# Altium integrated library Analog Devices Data Converters Analog-to-Digital Converters.IntLib: 2400 symbols (part 56 of 338)
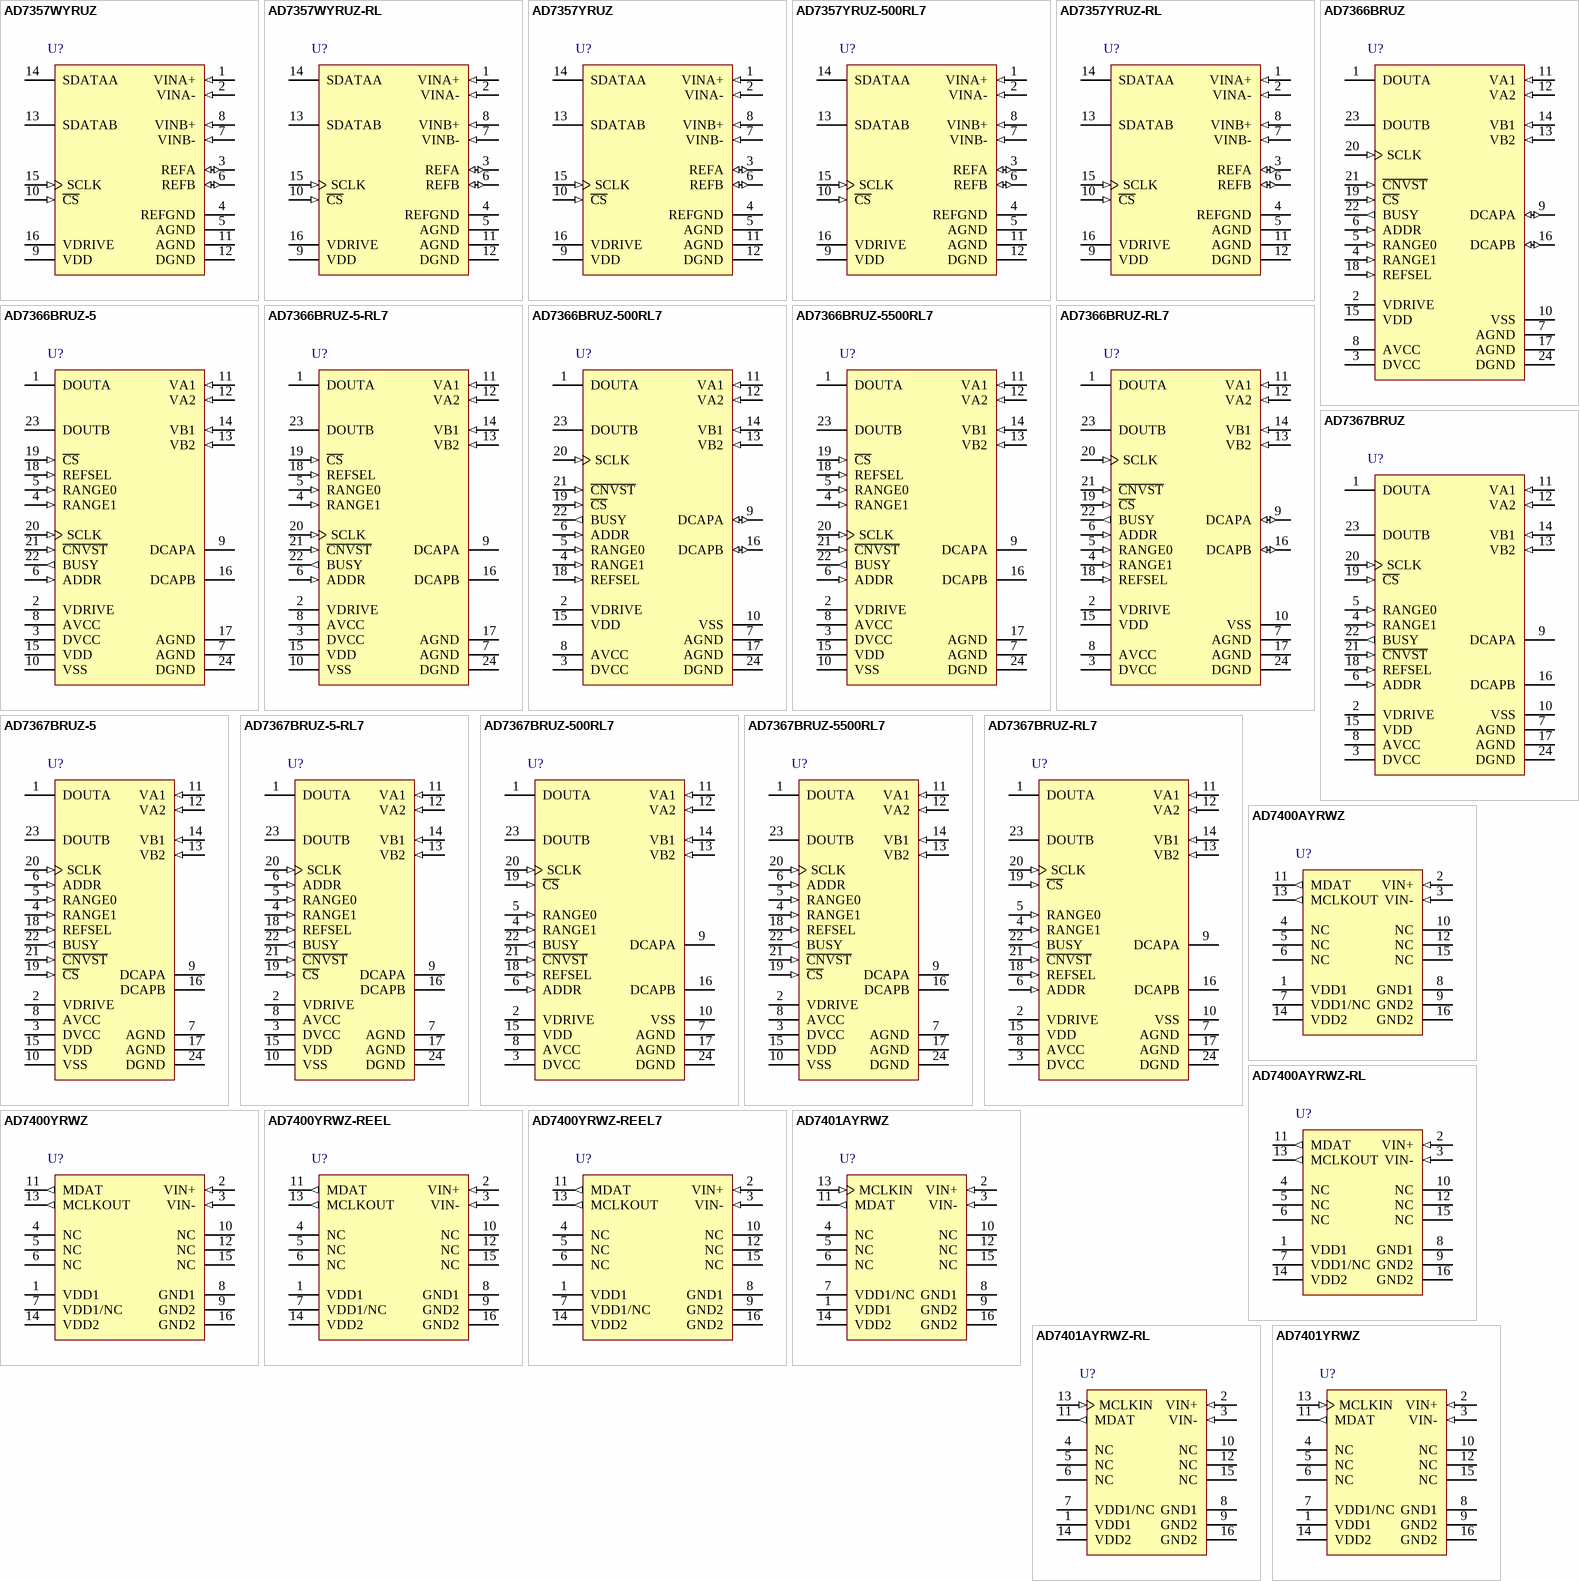
[diagram p187: symbols AD7357WYRUZ to AD7401YRWZ]

## AD7367BRUZ-5500RL7
designator U?
Dual 14-Bit True Bipolar Input SAR Analog-to-Digital Converter with Serial, SPI Interface, Simultaneous Sampling, 500KSPS, -40 to +85 degC, RU-24, Pb-Free, Reel; Part Number: AD7367-5; Manufacturer: Analog Devices; Resolution (Bits): 14; Channels: 2; Throughput Rate (SPS): 500K; Interface: Ser, SPI; DatasheetVersion: Rev.A; PackageVersion: 2002; PackageReference: RU-24; PackageDescription: 24-Lead Thin Shrink Small Outline Package [TSSOP]; RoHS: Y; Packing: Reel; Mounting Technology: Surface Mount; Code_JEDEC: MO-153-AD; ComponentLink1Description: Manufacturer URL; ComponentLink1URL: http://www.analog.com/en/index.html; ComponentLink2Description: Datasheet; ComponentLink2URL: http://www.analog.com/static/imported-files/data_sheets/AD7366_5_AD7367_5.pdf; ComponentLink3Description: Package Specification; ComponentLink3URL: http://www.analog.com/static/imported-files/packages/380523655245964505593671154107510036154RU24.pdf; ComponentLink4Description: Product URL; ComponentLink4URL: http://www.analog.com/en/analog-to-digital-converters/ad-converters/ad7367-5/products/product.html
footprint RU-24_N (TSOP, 24-Leads, Body 7.8x4.4mm, Pitch 0.65mm, IPC Medium Density)
footprint RU-24_L (TSOP, 24-Leads, Body 7.8x4.4mm, Pitch 0.65mm, IPC High Density)
footprint RU-24_M (TSOP, 24-Leads, Body 7.8x4.4mm, Pitch 0.65mm, IPC Low Density)
pins: 1 DOUTA (hiz) "Serial Data Outputs. The data output is supplied to each pin as a serial data stream. The bits are clocked out on the falling edge of the SCLK input and 12 SCLK cycles are required to access the data from the AD7366-5 while  (See Datasheet)", 2 VDRIVE (power) "Logic Power Supply Input. The voltage supplied at this pin determines at what voltage the interface operates.This pin should be decoupled to DGND. The voltage range on this pin is 2.7 V to 5.25 V and may be different than (See Datasheet)", 3 DVCC (power) "Digital Supply Voltage, 4.75 V to 5.25 V. The DVCC and AVCC voltages should ideally be at the same potential.For best performance, it is recommended that the DVCC and AVCC pins be shorted together, to ensure that the voltage (See Datasheet)", 4 RANGE1 (in) "Analog Input Range Selection, Logic Inputs. The polarity on these pins determines the input range of the analog input channels. See the Analog Inputs section and Table 8 for details.", 5 RANGE0 (in) "Analog Input Range Selection, Logic Inputs. The polarity on these pins determines the input range of the analog input channels. See the Analog Inputs section and Table 8 for details.", 6 ADDR (in) "Multiplexer Select, Logic Input. This input is used to select the pair of channels to be simultaneously converted,either Channel 1 of both ADC A and ADC B, or Channel 2 of both ADC A and ADC B. The logic state on this pin is (See Datasheet)", 7 AGND (power) "Analog Ground. Ground reference point for all analog circuitry on the AD7366-5/AD7367-5. All analog input signals and any external reference signal should be referred to this AGND voltage. Both AGND pins should connect to (See Datasheet)", 8 AVCC (power) "Analog Supply Voltage, 4.75 V to 5.25 V. This is the supply voltage for the ADC cores. The AVCC and DVCC voltages should ideally be at the same potential. For best performance, it is recommended that the DVCC and AVCC pins (See Datasheet)", 9 DCAPA "Decoupling Capacitor Pins. Decoupling capacitors are connected to these pins to decouple the reference buffer for each respective ADC. For best performance, it is recommended to use a 680 nF decoupling capacitor on these (See Datasheet)", 10 VSS (power) "Negative Power Supply Voltage. This is the negative supply voltage for the high voltage analog input structure of the AD7366-5/AD7367-5. The supply must be less than or equal to -5 V (see Table 7 for further details). Place (See Datasheet)", 11 VA1 (in) "Analog Inputs of ADC A. These are both single-ended analog inputs. The analog input range on these channels is determined by the RANGE0 and RANGE1 pins.", 12 VA2 (in) "Analog Inputs of ADC A. These are both single-ended analog inputs. The analog input range on these channels is determined by the RANGE0 and RANGE1 pins.", 13 VB2 (in) "Analog Inputs of ADC B. These are both single-ended analog inputs. The analog input range on these channels is determined by the RANGE0 and RANGE1 pins.", 14 VB1 (in) "Analog Inputs of ADC B. These are both single-ended analog inputs. The analog input range on these channels is determined by the RANGE0 and RANGE1 pins.", 15 VDD (power) "Positive Power Supply Voltage. This is the positive supply voltage for the high voltage analog input structure of the AD7366-5/AD7367-5. The supply must be greater than or equal to 5 V (see Table 7 for further details). (See Datasheet)", 16 DCAPB "Decoupling Capacitor Pins. Decoupling capacitors are connected to these pins to decouple the reference buffer for each respective ADC. For best performance, it is recommended to use a 680 nF decoupling capacitor on these (See Datasheet)", 17 AGND (power) "Analog Ground. Ground reference point for all analog circuitry on the AD7366-5/AD7367-5. All analog input signals and any external reference signal should be referred to this AGND voltage. Both AGND pins should connect to (See Datasheet)", 18 REFSEL (in) "Internal/External Reference Selection, Logic Input. If this pin is tied to logic high, the on-chip 2.5 V reference is used as the reference source for both ADC A and ADC B. In addition, Pin DCAPA and Pin DCAPB must be tied (See Datasheet)", 19 ~{CS} (in) "Chip Select, Active Low Logic Input. This input frames the serial data transfer. When C\S\ is logic low, the output bus is enabled, and the conversion result is output on DOUTA and DOUTB.", 20 SCLK (in) "Serial Clock, Logic Input. A serial clock input provides the SCLK for accessing the data from the AD7366-5/AD7367-5.", 21 ~{CNVST} (in) "Conversion Start, Logic Input. This pin is edge triggered. On the falling edge of this input, the track/hold goes into hold mode and the conversion is initiated. If C\N\V\S\T\ is low at the end of a conversion, the part goes (See Datasheet)", 22 BUSY (out) "Busy Output. BUSY transitions high when a conversion starts and remains high until the conversion completes.", 23 DOUTB (hiz) "Serial Data Outputs. The data output is supplied to each pin as a serial data stream. The bits are clocked out on the falling edge of the SCLK input and 12 SCLK cycles are required to access the data from the AD7366-5 while  (See Datasheet)", 24 DGND (power) "Digital Ground. This is the ground reference point for all digital circuitry on the AD7366-5/AD7367-5. The DGND pin should connect to the DGND plane of a system. The DGND and AGND voltages should ideally be at the same (See Datasheet)"

## AD7367BRUZ-RL7
designator U?
Dual 14-Bit True Bipolar Input SAR Analog-to-Digital Converter with Serial, SPI Interface, Simultaneous Sampling, 1MSPS, -40 to +85 degC, RU-24, Pb-Free, Reel; Part Number: AD7367; Manufacturer: Analog Devices; Resolution (Bits): 14; Channels: 4; Throughput Rate (SPS): 1M; Interface: Ser, SPI; DatasheetVersion: Rev.D; PackageVersion: 2002; PackageReference: RU-24; PackageDescription: 24-Lead Thin Shrink Small Outline Package [TSSOP]; RoHS: Y; Packing: Reel; Mounting Technology: Surface Mount; Code_JEDEC: MO-153-AD; ComponentLink1Description: Manufacturer URL; ComponentLink1URL: http://www.analog.com/en/index.html; ComponentLink2Description: Datasheet; ComponentLink2URL: http://www.analog.com/static/imported-files/data_sheets/AD7366_7367.pdf; ComponentLink3Description: Package Specification; ComponentLink3URL: http://www.analog.com/static/imported-files/packages/380523655245964505593671154107510036154RU24.pdf; ComponentLink4Description: Product URL; ComponentLink4URL: http://www.analog.com/en/analog-to-digital-converters/ad-converters/ad7367/products/product.html
footprint RU-24_N (TSOP, 24-Leads, Body 7.8x4.4mm, Pitch 0.65mm, IPC Medium Density)
footprint RU-24_L (TSOP, 24-Leads, Body 7.8x4.4mm, Pitch 0.65mm, IPC High Density)
footprint RU-24_M (TSOP, 24-Leads, Body 7.8x4.4mm, Pitch 0.65mm, IPC Low Density)
pins: 1 DOUTA (hiz) "Serial Data Outputs. The data output is supplied to each pin as a serial data stream. The bits are clocked out on the falling edge of the SCLK input; 12 SCLK cycles are required to access a result from the AD7366, and 14 (See Datasheet)", 2 VDRIVE (power) "Logic Power Supply Input. The voltage supplied at this pin determines at what voltage the interface operates. This pin should be decoupled to DGND. The voltage range on this pin is 2.7 V to 5.25 V and may be different from (See Datasheet)", 3 DVCC (power) "Digital Supply Voltage, 4.75 V to 5.25 V. The DVCC and AVCC voltages should ideally be at the same potential. For best performance, it is recommended that the DVCC and AVCC pins be shorted together, to ensure that the (See Datasheet)", 4 RANGE1 (in) "Analog Input Range Selection, Logic Inputs. The polarity on these pins determines the input range of the analog input channels. See the Analog Inputs section and Table 8 for details.", 5 RANGE0 (in) "Analog Input Range Selection, Logic Inputs. The polarity on these pins determines the input range of the analog input channels. See the Analog Inputs section and Table 8 for details.", 6 ADDR (in) "Multiplexer Select, Logic Input. This input is used to select the pair of channels to be simultaneously converted,either Channel 1 of both ADC A and ADC B, or Channel 2 of both ADC A and ADC B. The logic state on this pin is (See Datasheet)", 7 AGND (power) "Analog Ground. Ground reference point for all analog circuitry on the AD7366/AD7367. All analog input signals and any external reference signal should be referred to this AGND voltage. Both AGND pins should connect to the (See Datasheet)", 8 AVCC (power) "Analog Supply Voltage, 4.75 V to 5.25 V. This is the supply voltage for the ADC cores. The AVCC and DVCC voltages should ideally be at the same potential. For best performance, it is recommended that the DVCC and AVCC pins (See Datasheet)", 9 DCAPA "Decoupling Capacitor Pins. Decoupling capacitors are connected to these pins to decouple the reference buffer for each respective ADC. For best performance, it is recommended that a 680 nF decoupling capacitor be used on (See Datasheet)", 10 VSS (power) "Negative Power Supply Voltage. This is the negative supply voltage for the high voltage analog input structure of the AD7366/AD7367. The supply must be less than a maximum voltage of -11.5 V for all analog input ranges.See (See Datasheet)", 11 VA1 (in) "Analog Inputs of ADC A. Both analog inputs are single-ended. The analog input range on these channels is determined by the RANGE0 and RANGE1 pins.", 12 VA2 (in) "Analog Inputs of ADC A. Both analog inputs are single-ended. The analog input range on these channels is determined by the RANGE0 and RANGE1 pins.", 13 VB2 (in) "Analog Inputs of ADC B. Both analog inputs are single-ended. The analog input range on these channels is determined by the RANGE0 and RANGE1 pins.", 14 VB1 (in) "Analog Inputs of ADC B. Both analog inputs are single-ended. The analog input range on these channels is determined by the RANGE0 and RANGE1 pins.", 15 VDD (power) "Positive Power Supply Voltage. This is the positive supply voltage for the high voltage analog input structure of the AD7366/AD7367. The supply must be greater than a minimum voltage of 11.5 V for all analog input ranges.See (See Datasheet)", 16 DCAPB "Decoupling Capacitor Pins. Decoupling capacitors are connected to these pins to decouple the reference buffer for each respective ADC. For best performance, it is recommended that a 680 nF decoupling capacitor be used on (See Datasheet)", 17 AGND (power) "Analog Ground. Ground reference point for all analog circuitry on the AD7366/AD7367. All analog input signals and any external reference signal should be referred to this AGND voltage. Both AGND pins should connect to the (See Datasheet)", 18 REFSEL (in) "Internal/External Reference Selection, Logic Input. If this pin is tied to logic high, the on-chip 2.5 V reference is used as the reference source for both ADC A and ADC B. In addition, Pin DCAPA and Pin DCAPB must be tied (See Datasheet)", 19 ~{CS} (in) "Chip Select, Active Low Logic Input. This input frames the serial data transfer. When C\S\ is logic low, the output bus is enabled and the conversion result is output on DOUTA and DOUTB.", 20 SCLK (in) "Serial Clock, Logic Input. A serial clock input provides the SCLK for accessing the data from the AD7366/AD7367.", 21 ~{CNVST} (in) "Conversion Start, Logic Input. This pin is edge triggered. On the falling edge of this input, the track/hold goes into hold mode and the conversion is initiated. If C\N\V\S\T\ is low at the end of a conversion, the part goes (See Datasheet)", 22 BUSY (out) "Busy Output. BUSY transitions high when a conversion is started and remains high until the conversion is complete.", 23 DOUTB (hiz) "Serial Data Outputs. The data output is supplied to each pin as a serial data stream. The bits are clocked out on the falling edge of the SCLK input; 12 SCLK cycles are required to access a result from the AD7366, and 14 (See Datasheet)", 24 DGND (power) "Digital Ground. Ground reference point for all digital circuitry on the AD7366/AD7367. The DGND pin should connect to the DGND plane of a system. The DGND and AGND voltages should ideally be at the same potential and must (See Datasheet)"

## AD7400AYRWZ
designator U?
Isolated Sigma-Delta Modulator, 10MSPS, -40 to +125 degC, RW-16, Pb-Free, Tube; Part Number: AD7400A; Manufacturer: Analog Devices; Resolution (Bits): 16; Channels: 1; Throughput Rate (SPS): 10M; Interface: Ser; DatasheetVersion: Rev.C; PackageVersion: 032707-B; PackageReference: RW-16; PackageDescription: 16-Lead Standard Small Outline Package [SOIC_W]; RoHS: Y; Packing: Tube; Mounting Technology: Surface Mount; Code_JEDEC: MS-013-AA; Code_IPC: SOIC127P1030-16; ComponentLink1Description: Manufacturer URL; ComponentLink1URL: http://www.analog.com/en/index.html; ComponentLink2Description: Datasheet; ComponentLink2URL: http://www.analog.com/static/imported-files/data_sheets/AD7400A.pdf; ComponentLink3Description: Package Specification; ComponentLink3URL: http://www.analog.com/static/imported-files/packages/PKG_PDF/SOIC_WIDE%20%28RW%29/RW_16.pdf; ComponentLink4Description: Product URL; ComponentLink4URL: http://www.analog.com/en/analog-to-digital-converters/ad-converters/ad7400a/products/product.html
footprint RW-16_N (SOIC, 16-Leads, Body 10.3x7.5mm, Pitch 1.27mm, IPC Medium Density)
footprint RW-16_L (SOIC, 16-Leads, Body 10.3x7.5mm, Pitch 1.27mm, IPC High Density)
footprint RW-16_M (SOIC, 16-Leads, Body 10.3x7.5mm, Pitch 1.27mm, IPC Low Density)
pins: 1 VDD1 (power) "Supply Voltage, 4.5 V to 5.5 V. This is the supply voltage for the isolated side of the AD7400A and is relative to GND1.", 2 VIN+ (in) "Positive Analog Input. Specified range of +/-250 mV.", 3 VIN- (in) "Negative Analog Input. Normally connected to GND1.", 4 NC "No Connect.", 5 NC "No Connect.", 6 NC "No Connect.", 7 VDD1/NC (power) "Supply Voltage. 4.5 V to 5.5 V. This is the supply voltage for the isolated side of the AD7400A and is relative to GND1.No Connect (NC). If desired, Pin 7 of the SOIC device may be allowed to float. It should not be tied to (See Datasheet)", 8 GND1 (power) "Ground 1. This is the ground reference point for all circuitry on the isolated side.", 9 GND2 (power) "Ground 2. This is the ground reference point for all circuitry on the nonisolated side.", 10 NC "No Connect.", 11 MDAT (out) "Serial Data Output. The single bit modulator output is supplied to this pin as a serial data stream. The bits are clocked out on the rising edge of the MCLKOUT output and are valid on the following MCLKOUT rising edge.", 12 NC "No Connect.", 13 MCLKOUT (out) "Master Clock Logic Output (10 MHz Typical). The bit stream from the modulator is valid on the rising edge of MCLKOUT.", 14 VDD2 (power) "Supply Voltage, 3 V to 5.5 V. This is the supply voltage for the nonisolated side and is relative to GND2.", 15 NC "No Connect.", 16 GND2 (power) "Ground 2. This is the ground reference point for all circuitry on the nonisolated side."

## AD7400AYRWZ-RL
designator U?
Isolated Sigma-Delta Modulator, 10MSPS, -40 to +125 degC, RW-16, Pb-Free, Reel; Part Number: AD7400A; Manufacturer: Analog Devices; Resolution (Bits): 16; Channels: 1; Throughput Rate (SPS): 10M; Interface: Ser; DatasheetVersion: Rev.C; PackageVersion: 032707-B; PackageReference: RW-16; PackageDescription: 16-Lead Standard Small Outline Package [SOIC_W]; RoHS: Y; Packing: Reel; Mounting Technology: Surface Mount; Code_JEDEC: MS-013-AA; Code_IPC: SOIC127P1030-16; ComponentLink1Description: Manufacturer URL; ComponentLink1URL: http://www.analog.com/en/index.html; ComponentLink2Description: Datasheet; ComponentLink2URL: http://www.analog.com/static/imported-files/data_sheets/AD7400A.pdf; ComponentLink3Description: Package Specification; ComponentLink3URL: http://www.analog.com/static/imported-files/packages/PKG_PDF/SOIC_WIDE%20%28RW%29/RW_16.pdf; ComponentLink4Description: Product URL; ComponentLink4URL: http://www.analog.com/en/analog-to-digital-converters/ad-converters/ad7400a/products/product.html
footprint RW-16_N (SOIC, 16-Leads, Body 10.3x7.5mm, Pitch 1.27mm, IPC Medium Density)
footprint RW-16_L (SOIC, 16-Leads, Body 10.3x7.5mm, Pitch 1.27mm, IPC High Density)
footprint RW-16_M (SOIC, 16-Leads, Body 10.3x7.5mm, Pitch 1.27mm, IPC Low Density)
pins: 1 VDD1 (power) "Supply Voltage, 4.5 V to 5.5 V. This is the supply voltage for the isolated side of the AD7400A and is relative to GND1.", 2 VIN+ (in) "Positive Analog Input. Specified range of +/-250 mV.", 3 VIN- (in) "Negative Analog Input. Normally connected to GND1.", 4 NC "No Connect.", 5 NC "No Connect.", 6 NC "No Connect.", 7 VDD1/NC (power) "Supply Voltage. 4.5 V to 5.5 V. This is the supply voltage for the isolated side of the AD7400A and is relative to GND1.No Connect (NC). If desired, Pin 7 of the SOIC device may be allowed to float. It should not be tied to (See Datasheet)", 8 GND1 (power) "Ground 1. This is the ground reference point for all circuitry on the isolated side.", 9 GND2 (power) "Ground 2. This is the ground reference point for all circuitry on the nonisolated side.", 10 NC "No Connect.", 11 MDAT (out) "Serial Data Output. The single bit modulator output is supplied to this pin as a serial data stream. The bits are clocked out on the rising edge of the MCLKOUT output and are valid on the following MCLKOUT rising edge.", 12 NC "No Connect.", 13 MCLKOUT (out) "Master Clock Logic Output (10 MHz Typical). The bit stream from the modulator is valid on the rising edge of MCLKOUT.", 14 VDD2 (power) "Supply Voltage, 3 V to 5.5 V. This is the supply voltage for the nonisolated side and is relative to GND2.", 15 NC "No Connect.", 16 GND2 (power) "Ground 2. This is the ground reference point for all circuitry on the nonisolated side."

## AD7400YRWZ
designator U?
Isolated Sigma-Delta Modulator, 10MSPS, -40 to +105 degC, RW-16, Pb-Free, Tube; Part Number: AD7400; Manufacturer: Analog Devices; Resolution (Bits): 16; Channels: 1; Throughput Rate (SPS): 10M; Interface: Ser; DatasheetVersion: Rev.F; PackageVersion: 032707-B; PackageReference: RW-16; PackageDescription: 16-Lead Standard Small Outline Package [SOIC_W]; RoHS: Y; Packing: Tube; Mounting Technology: Surface Mount; Code_JEDEC: MS-013-AA; Code_IPC: SOIC127P1030-16; ComponentLink1Description: Manufacturer URL; ComponentLink1URL: http://www.analog.com/en/index.html; ComponentLink2Description: Datasheet; ComponentLink2URL: http://www.analog.com/static/imported-files/data_sheets/AD7400.pdf; ComponentLink3Description: Package Specification; ComponentLink3URL: http://www.analog.com/static/imported-files/packages/PKG_PDF/SOIC_WIDE%20%28RW%29/RW_16.pdf; ComponentLink4Description: Product URL; ComponentLink4URL: http://www.analog.com/en/analog-to-digital-converters/ad-converters/ad7400/products/product.html
footprint RW-16_N (SOIC, 16-Leads, Body 10.3x7.5mm, Pitch 1.27mm, IPC Medium Density)
footprint RW-16_L (SOIC, 16-Leads, Body 10.3x7.5mm, Pitch 1.27mm, IPC High Density)
footprint RW-16_M (SOIC, 16-Leads, Body 10.3x7.5mm, Pitch 1.27mm, IPC Low Density)
pins: 1 VDD1 (power) "Supply Voltage. 4.5 V to 5.25 V. This is the supply voltage for the isolated side of the AD7400 and is relative to GND1.", 2 VIN+ (in) "Positive Analog Input. Specified range of +/-200 mV.", 3 VIN- (in) "Negative Analog Input. Normally connected to GND1.", 4 NC "No Connect.", 5 NC "No Connect.", 6 NC "No Connect.", 7 VDD1/NC (power) "Supply Voltage. 4.5 V to 5.25 V. This is the supply voltage for the isolated side of the AD7400 and is relative to GND1.", 8 GND1 (power) "Ground 1. This is the ground reference point for all circuitry on the isolated side.", 9 GND2 (power) "Ground 2. This is the ground reference point for all circuitry on the nonisolated side.", 10 NC "No Connect.", 11 MDAT (out) "Serial Data Output. The single bit modulator output is supplied to this pin as a serial data stream.  The bits are clocked out on the rising edge of the MCLKOUT output and valid on the following  MCLKOUT rising edge.", 12 NC "No Connect.", 13 MCLKOUT (out) "Master Clock Logic Output. 10 MHz typical. The bit stream from the modulator is valid on the rising edge  of MCLKOUT.", 14 VDD2 (power) "Supply Voltage. 3 V to 5.5 V. This is the supply voltage for the nonisolated side and is relative to GND2.", 15 NC "No Connect.", 16 GND2 (power) "Ground 2. This is the ground reference point for all circuitry on the nonisolated side."

## AD7400YRWZ-REEL
designator U?
Isolated Sigma-Delta Modulator, 10MSPS, -40 to +105 degC, RW-16, Pb-Free, Reel; Part Number: AD7400; Manufacturer: Analog Devices; Resolution (Bits): 16; Channels: 1; Throughput Rate (SPS): 10M; Interface: Ser; DatasheetVersion: Rev.F; PackageVersion: 032707-B; PackageReference: RW-16; PackageDescription: 16-Lead Standard Small Outline Package [SOIC_W]; RoHS: Y; Packing: Reel; Mounting Technology: Surface Mount; Code_JEDEC: MS-013-AA; Code_IPC: SOIC127P1030-16; ComponentLink1Description: Manufacturer URL; ComponentLink1URL: http://www.analog.com/en/index.html; ComponentLink2Description: Datasheet; ComponentLink2URL: http://www.analog.com/static/imported-files/data_sheets/AD7400.pdf; ComponentLink3Description: Package Specification; ComponentLink3URL: http://www.analog.com/static/imported-files/packages/PKG_PDF/SOIC_WIDE%20%28RW%29/RW_16.pdf; ComponentLink4Description: Product URL; ComponentLink4URL: http://www.analog.com/en/analog-to-digital-converters/ad-converters/ad7400/products/product.html
footprint RW-16_N (SOIC, 16-Leads, Body 10.3x7.5mm, Pitch 1.27mm, IPC Medium Density)
footprint RW-16_L (SOIC, 16-Leads, Body 10.3x7.5mm, Pitch 1.27mm, IPC High Density)
footprint RW-16_M (SOIC, 16-Leads, Body 10.3x7.5mm, Pitch 1.27mm, IPC Low Density)
pins: 1 VDD1 (power) "Supply Voltage. 4.5 V to 5.25 V. This is the supply voltage for the isolated side of the AD7400 and is relative to GND1.", 2 VIN+ (in) "Positive Analog Input. Specified range of +/-200 mV.", 3 VIN- (in) "Negative Analog Input. Normally connected to GND1.", 4 NC "No Connect.", 5 NC "No Connect.", 6 NC "No Connect.", 7 VDD1/NC (power) "Supply Voltage. 4.5 V to 5.25 V. This is the supply voltage for the isolated side of the AD7400 and is relative to GND1.", 8 GND1 (power) "Ground 1. This is the ground reference point for all circuitry on the isolated side.", 9 GND2 (power) "Ground 2. This is the ground reference point for all circuitry on the nonisolated side.", 10 NC "No Connect.", 11 MDAT (out) "Serial Data Output. The single bit modulator output is supplied to this pin as a serial data stream.  The bits are clocked out on the rising edge of the MCLKOUT output and valid on the following  MCLKOUT rising edge.", 12 NC "No Connect.", 13 MCLKOUT (out) "Master Clock Logic Output. 10 MHz typical. The bit stream from the modulator is valid on the rising edge  of MCLKOUT.", 14 VDD2 (power) "Supply Voltage. 3 V to 5.5 V. This is the supply voltage for the nonisolated side and is relative to GND2.", 15 NC "No Connect.", 16 GND2 (power) "Ground 2. This is the ground reference point for all circuitry on the nonisolated side."

## AD7400YRWZ-REEL7
designator U?
Isolated Sigma-Delta Modulator, 10MSPS, -40 to +105 degC, RW-16, Pb-Free, Reel; Part Number: AD7400; Manufacturer: Analog Devices; Resolution (Bits): 16; Channels: 1; Throughput Rate (SPS): 10M; Interface: Ser; DatasheetVersion: Rev.F; PackageVersion: 032707-B; PackageReference: RW-16; PackageDescription: 16-Lead Standard Small Outline Package [SOIC_W]; RoHS: Y; Packing: Reel; Mounting Technology: Surface Mount; Code_JEDEC: MS-013-AA; Code_IPC: SOIC127P1030-16; ComponentLink1Description: Manufacturer URL; ComponentLink1URL: http://www.analog.com/en/index.html; ComponentLink2Description: Datasheet; ComponentLink2URL: http://www.analog.com/static/imported-files/data_sheets/AD7400.pdf; ComponentLink3Description: Package Specification; ComponentLink3URL: http://www.analog.com/static/imported-files/packages/PKG_PDF/SOIC_WIDE%20%28RW%29/RW_16.pdf; ComponentLink4Description: Product URL; ComponentLink4URL: http://www.analog.com/en/analog-to-digital-converters/ad-converters/ad7400/products/product.html
footprint RW-16_N (SOIC, 16-Leads, Body 10.3x7.5mm, Pitch 1.27mm, IPC Medium Density)
footprint RW-16_L (SOIC, 16-Leads, Body 10.3x7.5mm, Pitch 1.27mm, IPC High Density)
footprint RW-16_M (SOIC, 16-Leads, Body 10.3x7.5mm, Pitch 1.27mm, IPC Low Density)
pins: 1 VDD1 (power) "Supply Voltage. 4.5 V to 5.25 V. This is the supply voltage for the isolated side of the AD7400 and is relative to GND1.", 2 VIN+ (in) "Positive Analog Input. Specified range of +/-200 mV.", 3 VIN- (in) "Negative Analog Input. Normally connected to GND1.", 4 NC "No Connect.", 5 NC "No Connect.", 6 NC "No Connect.", 7 VDD1/NC (power) "Supply Voltage. 4.5 V to 5.25 V. This is the supply voltage for the isolated side of the AD7400 and is relative to GND1.", 8 GND1 (power) "Ground 1. This is the ground reference point for all circuitry on the isolated side.", 9 GND2 (power) "Ground 2. This is the ground reference point for all circuitry on the nonisolated side.", 10 NC "No Connect.", 11 MDAT (out) "Serial Data Output. The single bit modulator output is supplied to this pin as a serial data stream.  The bits are clocked out on the rising edge of the MCLKOUT output and valid on the following  MCLKOUT rising edge.", 12 NC "No Connect.", 13 MCLKOUT (out) "Master Clock Logic Output. 10 MHz typical. The bit stream from the modulator is valid on the rising edge  of MCLKOUT.", 14 VDD2 (power) "Supply Voltage. 3 V to 5.5 V. This is the supply voltage for the nonisolated side and is relative to GND2.", 15 NC "No Connect.", 16 GND2 (power) "Ground 2. This is the ground reference point for all circuitry on the nonisolated side."

## AD7401AYRWZ
designator U?
Isolated Sigma-Delta Modulator, 20MSPS, -40 to +125 degC, RW-16, Pb-Free, Tube; Part Number: AD7401A; Manufacturer: Analog Devices; Resolution (Bits): 16; Channels: 1; Throughput Rate (SPS): 20M; Interface: Ser; DatasheetVersion: Rev.C; PackageVersion: 032707-B; PackageReference: RW-16; PackageDescription: 16-Lead Standard Small Outline Package [SOIC_W]; RoHS: Y; Packing: Tube; Mounting Technology: Surface Mount; Code_JEDEC: MS-013-AA; Code_IPC: SOIC127P1030-16; ComponentLink1Description: Manufacturer URL; ComponentLink1URL: http://www.analog.com/en/index.html; ComponentLink2Description: Datasheet; ComponentLink2URL: http://www.analog.com/static/imported-files/data_sheets/AD7401A.pdf; ComponentLink3Description: Package Specification; ComponentLink3URL: http://www.analog.com/static/imported-files/packages/PKG_PDF/SOIC_WIDE%20%28RW%29/RW_16.pdf; ComponentLink4Description: Product URL; ComponentLink4URL: http://www.analog.com/en/analog-to-digital-converters/ad-converters/ad7401a/products/product.html
footprint RW-16_N (SOIC, 16-Leads, Body 10.3x7.5mm, Pitch 1.27mm, IPC Medium Density)
footprint RW-16_L (SOIC, 16-Leads, Body 10.3x7.5mm, Pitch 1.27mm, IPC High Density)
footprint RW-16_M (SOIC, 16-Leads, Body 10.3x7.5mm, Pitch 1.27mm, IPC Low Density)
pins: 1 VDD1 (power) "Supply Voltage, 4.5 V to 5.5 V. This is the supply voltage for the isolated side of the AD7401A and is relative to GND1.", 2 VIN+ (in) "Supply Voltage, 4.5 V to 5.5 V. This is the supply voltage for the isolated side of the AD7401A and is relative to GND1.", 3 VIN- (in) "Negative Analog Input. Normally connected to GND1.", 4 NC "No Connect.", 5 NC "No Connect.", 6 NC "No Connect.", 7 VDD1/NC (power) "Supply Voltage. 4.5 V to 5.5 V. This is the supply voltage for the isolated side of the AD7401A and is relative to GND1.No Connect (NC). If desired, Pin 7 may be allowed to float. It should not be tied to ground. The AD7401A (See Datasheet)", 8 GND1 "Ground 1. This is the ground reference point for all circuitry on the isolated side.", 9 GND2 "Ground 2. This is the ground reference point for all circuitry on the nonisolated side.", 10 NC "No Connect.", 11 MDAT (out) "Serial Data Output. The single bit modulator output is supplied to this pin as a serial data stream. The bits are clocked out on the rising edge of the MCLKIN input and valid on the following MCLKIN rising edge.", 12 NC "No Connect.", 13 MCLKIN (in) "Master Clock Logic Input. 20 MHz maximum. The bit stream from the modulator is valid on the rising edge of MCLKIN.", 14 VDD2 (power) "Supply Voltage. 3 V to 5.5 V. This is the supply voltage for the nonisolated side and is relative to GND2.", 15 NC "No Connect.", 16 GND2 "Ground 2. This is the ground reference point for all circuitry on the nonisolated side."

## AD7401AYRWZ-RL
designator U?
Isolated Sigma-Delta Modulator, 20MSPS, -40 to +125 degC, RW-16, Pb-Free, Reel; Part Number: AD7401A; Manufacturer: Analog Devices; Resolution (Bits): 16; Channels: 1; Throughput Rate (SPS): 20M; Interface: Ser; DatasheetVersion: Rev.C; PackageVersion: 032707-B; PackageReference: RW-16; PackageDescription: 16-Lead Standard Small Outline Package [SOIC_W]; RoHS: Y; Packing: Reel; Mounting Technology: Surface Mount; Code_JEDEC: MS-013-AA; Code_IPC: SOIC127P1030-16; ComponentLink1Description: Manufacturer URL; ComponentLink1URL: http://www.analog.com/en/index.html; ComponentLink2Description: Datasheet; ComponentLink2URL: http://www.analog.com/static/imported-files/data_sheets/AD7401A.pdf; ComponentLink3Description: Package Specification; ComponentLink3URL: http://www.analog.com/static/imported-files/packages/PKG_PDF/SOIC_WIDE%20%28RW%29/RW_16.pdf; ComponentLink4Description: Product URL; ComponentLink4URL: http://www.analog.com/en/analog-to-digital-converters/ad-converters/ad7401a/products/product.html
footprint RW-16_N (SOIC, 16-Leads, Body 10.3x7.5mm, Pitch 1.27mm, IPC Medium Density)
footprint RW-16_L (SOIC, 16-Leads, Body 10.3x7.5mm, Pitch 1.27mm, IPC High Density)
footprint RW-16_M (SOIC, 16-Leads, Body 10.3x7.5mm, Pitch 1.27mm, IPC Low Density)
pins: 1 VDD1 (power) "Supply Voltage, 4.5 V to 5.5 V. This is the supply voltage for the isolated side of the AD7401A and is relative to GND1.", 2 VIN+ (in) "Supply Voltage, 4.5 V to 5.5 V. This is the supply voltage for the isolated side of the AD7401A and is relative to GND1.", 3 VIN- (in) "Negative Analog Input. Normally connected to GND1.", 4 NC "No Connect.", 5 NC "No Connect.", 6 NC "No Connect.", 7 VDD1/NC (power) "Supply Voltage. 4.5 V to 5.5 V. This is the supply voltage for the isolated side of the AD7401A and is relative to GND1.No Connect (NC). If desired, Pin 7 may be allowed to float. It should not be tied to ground. The AD7401A (See Datasheet)", 8 GND1 "Ground 1. This is the ground reference point for all circuitry on the isolated side.", 9 GND2 "Ground 2. This is the ground reference point for all circuitry on the nonisolated side.", 10 NC "No Connect.", 11 MDAT (out) "Serial Data Output. The single bit modulator output is supplied to this pin as a serial data stream. The bits are clocked out on the rising edge of the MCLKIN input and valid on the following MCLKIN rising edge.", 12 NC "No Connect.", 13 MCLKIN (in) "Master Clock Logic Input. 20 MHz maximum. The bit stream from the modulator is valid on the rising edge of MCLKIN.", 14 VDD2 (power) "Supply Voltage. 3 V to 5.5 V. This is the supply voltage for the nonisolated side and is relative to GND2.", 15 NC "No Connect.", 16 GND2 "Ground 2. This is the ground reference point for all circuitry on the nonisolated side."

## AD7401YRWZ
designator U?
Isolated Sigma-Delta Modulator, 20MSPS, -40 to +105 degC, RW-16, Pb-Free, Tube; Part Number: AD7401; Manufacturer: Analog Devices; Resolution (Bits): 16; Channels: 1; Throughput Rate (SPS): 20M; Interface: Ser; DatasheetVersion: Rev.D; PackageVersion: 032707-B; PackageReference: RW-16; PackageDescription: 16-Lead Standard Small Outline Package [SOIC_W]; RoHS: Y; Packing: Tube; Mounting Technology: Surface Mount; Code_JEDEC: MS-013-AA; Code_IPC: SOIC127P1030-16; ComponentLink1Description: Manufacturer URL; ComponentLink1URL: http://www.analog.com/en/index.html; ComponentLink2Description: Datasheet; ComponentLink2URL: http://www.analog.com/static/imported-files/data_sheets/AD7401.pdf; ComponentLink3Description: Package Specification; ComponentLink3URL: http://www.analog.com/static/imported-files/packages/PKG_PDF/SOIC_WIDE%20%28RW%29/RW_16.pdf; ComponentLink4Description: Product URL; ComponentLink4URL: http://www.analog.com/en/analog-to-digital-converters/ad-converters/ad7401/products/product.html
footprint RW-16_N (SOIC, 16-Leads, Body 10.3x7.5mm, Pitch 1.27mm, IPC Medium Density)
footprint RW-16_L (SOIC, 16-Leads, Body 10.3x7.5mm, Pitch 1.27mm, IPC High Density)
footprint RW-16_M (SOIC, 16-Leads, Body 10.3x7.5mm, Pitch 1.27mm, IPC Low Density)
pins: 1 VDD1 (power) "Supply Voltage. 4.5 V to 5.25 V. This is the supply voltage for the isolated side of the AD7401 and is relative to GND1.", 2 VIN+ (in) "Positive Analog Input. Specified range of +/-200 mV.", 3 VIN- (in) "Negative Analog Input. Normally connected to GND1.", 4 NC "No Connect.", 5 NC "No Connect.", 6 NC "No Connect.", 7 VDD1/NC (power) "Supply Voltage. 4.5 V to 5.25 V. This is the supply voltage for the isolated side of the AD7401 and is relative to GND1. No Connect (NC). If desired, Pin 7 may be allowed to float. It should not be tied to ground. The AD7401 (See Datasheet)", 8 GND1 (power) "Ground 1. This is the ground reference point for all circuitry on the isolated side.", 9 GND2 (power) "Ground 2. This is the ground reference point for all circuitry on the nonisolated side.", 10 NC "No Connect.", 11 MDAT (out) "Serial Data Output. The single bit modulator output is supplied to this pin as a serial data stream. The bits are clocked out on the rising edge of the MCLKIN input and valid on the following MCLKIN rising edge.", 12 NC "No Connect.", 13 MCLKIN (in) "Master Clock Logic Input. 20 MHz maximum. The bit stream from the modulator is valid on the rising edge of MCLKIN.", 14 VDD2 (power) "Supply Voltage. 3 V to 5.5 V. This is the supply voltage for the nonisolated side and is relative to GND2.", 15 NC "No Connect.", 16 GND2 (power) "Ground 2. This is the ground reference point for all circuitry on the nonisolated side."

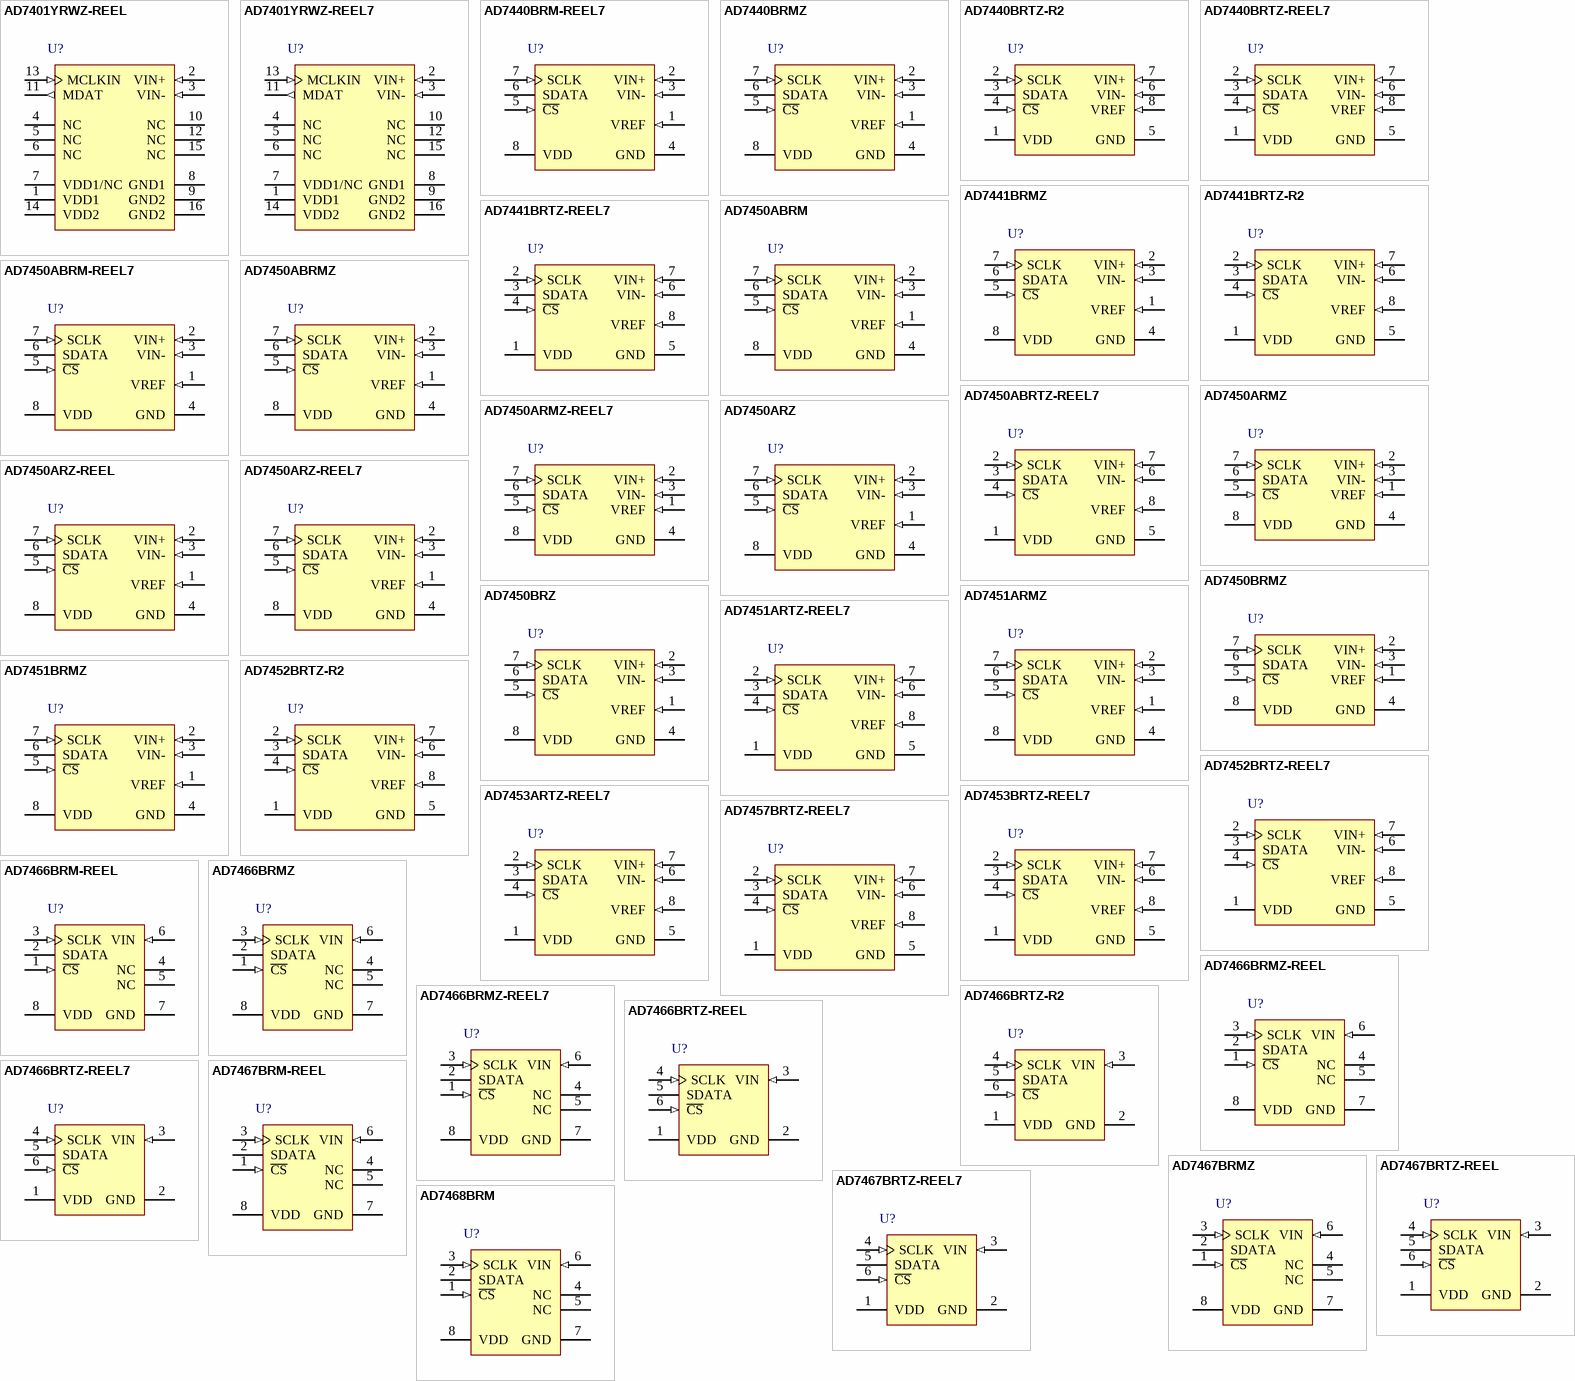
[diagram p22: symbols AD7401YRWZ-REEL to AD7468BRM]

## AD7401YRWZ-REEL
designator U?
Isolated Sigma-Delta Modulator, 20MSPS, -40 to +105 degC, RW-16, Pb-Free, Reel; Part Number: AD7401; Manufacturer: Analog Devices; Resolution (Bits): 16; Channels: 1; Throughput Rate (SPS): 20M; Interface: Ser; DatasheetVersion: Rev.D; PackageVersion: 032707-B; PackageReference: RW-16; PackageDescription: 16-Lead Standard Small Outline Package [SOIC_W]; RoHS: Y; Packing: Reel; Mounting Technology: Surface Mount; Code_JEDEC: MS-013-AA; Code_IPC: SOIC127P1030-16; ComponentLink1Description: Manufacturer URL; ComponentLink1URL: http://www.analog.com/en/index.html; ComponentLink2Description: Datasheet; ComponentLink2URL: http://www.analog.com/static/imported-files/data_sheets/AD7401.pdf; ComponentLink3Description: Package Specification; ComponentLink3URL: http://www.analog.com/static/imported-files/packages/PKG_PDF/SOIC_WIDE%20%28RW%29/RW_16.pdf; ComponentLink4Description: Product URL; ComponentLink4URL: http://www.analog.com/en/analog-to-digital-converters/ad-converters/ad7401/products/product.html
footprint RW-16_N (SOIC, 16-Leads, Body 10.3x7.5mm, Pitch 1.27mm, IPC Medium Density)
footprint RW-16_L (SOIC, 16-Leads, Body 10.3x7.5mm, Pitch 1.27mm, IPC High Density)
footprint RW-16_M (SOIC, 16-Leads, Body 10.3x7.5mm, Pitch 1.27mm, IPC Low Density)
pins: 1 VDD1 (power) "Supply Voltage. 4.5 V to 5.25 V. This is the supply voltage for the isolated side of the AD7401 and is relative to GND1.", 2 VIN+ (in) "Positive Analog Input. Specified range of +/-200 mV.", 3 VIN- (in) "Negative Analog Input. Normally connected to GND1.", 4 NC "No Connect.", 5 NC "No Connect.", 6 NC "No Connect.", 7 VDD1/NC (power) "Supply Voltage. 4.5 V to 5.25 V. This is the supply voltage for the isolated side of the AD7401 and is relative to GND1. No Connect (NC). If desired, Pin 7 may be allowed to float. It should not be tied to ground. The AD7401 (See Datasheet)", 8 GND1 (power) "Ground 1. This is the ground reference point for all circuitry on the isolated side.", 9 GND2 (power) "Ground 2. This is the ground reference point for all circuitry on the nonisolated side.", 10 NC "No Connect.", 11 MDAT (out) "Serial Data Output. The single bit modulator output is supplied to this pin as a serial data stream. The bits are clocked out on the rising edge of the MCLKIN input and valid on the following MCLKIN rising edge.", 12 NC "No Connect.", 13 MCLKIN (in) "Master Clock Logic Input. 20 MHz maximum. The bit stream from the modulator is valid on the rising edge of MCLKIN.", 14 VDD2 (power) "Supply Voltage. 3 V to 5.5 V. This is the supply voltage for the nonisolated side and is relative to GND2.", 15 NC "No Connect.", 16 GND2 (power) "Ground 2. This is the ground reference point for all circuitry on the nonisolated side."

## AD7401YRWZ-REEL7
designator U?
Isolated Sigma-Delta Modulator with Serial Interface, 20MSPS, -40 to +105 degC, RW-16, Pb-Free, Reel; Part Number: AD7401; Manufacturer: Analog Devices; Resolution (Bits): 16; Channels: 1; Throughput Rate (SPS): 20M; Interface: Ser; DatasheetVersion: Rev.D; PackageVersion: 032707-B; PackageReference: RW-16; PackageDescription: 16-Lead Standard Small Outline Package [SOIC_W]; RoHS: Y; Packing: Reel; Mounting Technology: Surface Mount; Code_JEDEC: MS-013-AA; Code_IPC: SOIC127P1030-16; ComponentLink1Description: Manufacturer URL; ComponentLink1URL: http://www.analog.com/en/index.html; ComponentLink2Description: Datasheet; ComponentLink2URL: http://www.analog.com/static/imported-files/data_sheets/AD7401.pdf; ComponentLink3Description: Package Specification; ComponentLink3URL: http://www.analog.com/static/imported-files/packages/PKG_PDF/SOIC_WIDE%20%28RW%29/RW_16.pdf; ComponentLink4Description: Product URL; ComponentLink4URL: http://www.analog.com/en/analog-to-digital-converters/ad-converters/ad7401/products/product.html
footprint RW-16_N (SOIC, 16-Leads, Body 10.3x7.5mm, Pitch 1.27mm, IPC Medium Density)
footprint RW-16_L (SOIC, 16-Leads, Body 10.3x7.5mm, Pitch 1.27mm, IPC High Density)
footprint RW-16_M (SOIC, 16-Leads, Body 10.3x7.5mm, Pitch 1.27mm, IPC Low Density)
pins: 1 VDD1 (power) "Supply Voltage. 4.5 V to 5.25 V. This is the supply voltage for the isolated side of the AD7401 and is relative to GND1.", 2 VIN+ (in) "Positive Analog Input. Specified range of +/-200 mV.", 3 VIN- (in) "Negative Analog Input. Normally connected to GND1.", 4 NC "No Connect.", 5 NC "No Connect.", 6 NC "No Connect.", 7 VDD1/NC (power) "Supply Voltage. 4.5 V to 5.25 V. This is the supply voltage for the isolated side of the AD7401 and is relative to GND1. No Connect (NC). If desired, Pin 7 may be allowed to float. It should not be tied to ground. The AD7401 (See Datasheet)", 8 GND1 (power) "Ground 1. This is the ground reference point for all circuitry on the isolated side.", 9 GND2 (power) "Ground 2. This is the ground reference point for all circuitry on the nonisolated side.", 10 NC "No Connect.", 11 MDAT (out) "Serial Data Output. The single bit modulator output is supplied to this pin as a serial data stream. The bits are clocked out on the rising edge of the MCLKIN input and valid on the following MCLKIN rising edge.", 12 NC "No Connect.", 13 MCLKIN (in) "Master Clock Logic Input. 20 MHz maximum. The bit stream from the modulator is valid on the rising edge of MCLKIN.", 14 VDD2 (power) "Supply Voltage. 3 V to 5.5 V. This is the supply voltage for the nonisolated side and is relative to GND2.", 15 NC "No Connect.", 16 GND2 (power) "Ground 2. This is the ground reference point for all circuitry on the nonisolated side."

## AD7440BRM-REEL7
designator U?
Single 10-Bit Analog-to-Digital Converter with Serial, SPI Interface, 1MSPS, -40 to +85 degC, RM-8, Reel; Part Number: AD7440; Manufacturer: Analog Devices; Resolution (Bits): 10; Channels: 1; Throughput Rate (SPS): 1M; Interface: Ser, SPI; DatasheetVersion: Rev.C; PackageVersion: Aug-2005; PackageReference: RM-8; PackageDescription: 8-Lead Mini Small Outline Package [MSOP]; RoHS: N; Packing: Reel; Mounting Technology: Surface Mount; Code_JEDEC: MO-187-AA; ComponentLink1Description: Manufacturer URL; ComponentLink1URL: http://www.analog.com/en/index.html; ComponentLink2Description: Datasheet; ComponentLink2URL: http://www.analog.com/static/imported-files/data_sheets/AD7440_7450A.pdf; ComponentLink3Description: Package Specification; ComponentLink3URL: http://www.analog.com/static/imported-files/packages/PKG_PDF/MSOP%28RM%29/RM_8.pdf; ComponentLink4Description: Product URL; ComponentLink4URL: http://www.analog.com/en/analog-to-digital-converters/ad-converters/ad7440/products/product.html
footprint RM-8_N (TSOP, 8-Leads, Body 3x3mm, Pitch 0.65mm, IPC Medium Density)
footprint RM-8_L (TSOP, 8-Leads, Body 3x3mm, Pitch 0.65mm, IPC High Density)
footprint RM-8_M (TSOP, 8-Leads, Body 3x3mm, Pitch 0.65mm, IPC Low Density)
pins: 1 VREF (in) "Reference Input for the AD7440. An external reference must be applied to this input. For a 5 V power supply, the reference is 2.5 V (+/-1%) for specified performance. For a 3 V power supply, the reference is 2 V (+/-1%) for (See Datasheet)", 2 VIN+ (in) "Positive Terminal for Differential Analog Input.", 3 VIN- (in) "Negative Terminal for Differential Analog Input.", 4 GND (power) "Analog Ground. Ground reference point for all circuitry on the AD7440. All analog input signals and any external reference signal should be referred to this GND voltage.", 5 ~{CS} (in) "Chip Select. Active low logic input. This input provides the dual function of initiating a conversion on the AD7440 and framing the serial data transfer.", 6 SDATA (hiz) "Serial Data. Logic output. The conversion result from the AD7440 is provided on this output as a serial data stream. The bits are clocked out on the falling edge of the SCLK input. The data stream of the AD7450A consists of (See Datasheet)", 7 SCLK (in) "Serial Clock. Logic input. SCLK provides the serial clock for accessing data from the part. This clock input is also used as the clock source for the conversion process.", 8 VDD (power) "Power Supply Input. VDD is 3 V (+20%/-10%) or 5 V (+/-5%). This supply should be decoupled to GND with a 0.1 uF capacitor and a 10 uF tantalum capacitor in parallel."

## AD7440BRMZ
designator U?
Single 10-Bit Analog-to-Digital Converter with Serial, SPI Interface, 1MSPS, -40 to +85 degC, RM-8, Pb-Free, Tube; Part Number: AD7440; Manufacturer: Analog Devices; Resolution (Bits): 10; Channels: 1; Throughput Rate (SPS): 1M; Interface: Ser, SPI; DatasheetVersion: Rev.C; PackageVersion: Aug-2005; PackageReference: RM-8; PackageDescription: 8-Lead Mini Small Outline Package [MSOP]; RoHS: Y; Packing: Tube; Mounting Technology: Surface Mount; Code_JEDEC: MO-187-AA; ComponentLink1Description: Manufacturer URL; ComponentLink1URL: http://www.analog.com/en/index.html; ComponentLink2Description: Datasheet; ComponentLink2URL: http://www.analog.com/static/imported-files/data_sheets/AD7440_7450A.pdf; ComponentLink3Description: Package Specification; ComponentLink3URL: http://www.analog.com/static/imported-files/packages/PKG_PDF/MSOP%28RM%29/RM_8.pdf; ComponentLink4Description: Product URL; ComponentLink4URL: http://www.analog.com/en/analog-to-digital-converters/ad-converters/ad7440/products/product.html
footprint RM-8_N (TSOP, 8-Leads, Body 3x3mm, Pitch 0.65mm, IPC Medium Density)
footprint RM-8_L (TSOP, 8-Leads, Body 3x3mm, Pitch 0.65mm, IPC High Density)
footprint RM-8_M (TSOP, 8-Leads, Body 3x3mm, Pitch 0.65mm, IPC Low Density)
pins: 1 VREF (in) "Reference Input for the AD7440. An external reference must be applied to this input. For a 5 V power supply, the reference is 2.5 V (+/-1%) for specified performance. For a 3 V power supply, the reference is 2 V (+/-1%) for (See Datasheet)", 2 VIN+ (in) "Positive Terminal for Differential Analog Input.", 3 VIN- (in) "Negative Terminal for Differential Analog Input.", 4 GND (power) "Analog Ground. Ground reference point for all circuitry on the AD7440. All analog input signals and any external reference signal should be referred to this GND voltage.", 5 ~{CS} (in) "Chip Select. Active low logic input. This input provides the dual function of initiating a conversion on the AD7440 and framing the serial data transfer.", 6 SDATA (hiz) "Serial Data. Logic output. The conversion result from the AD7440 is provided on this output as a serial data stream. The bits are clocked out on the falling edge of the SCLK input. The data stream of the AD7450A consists of (See Datasheet)", 7 SCLK (in) "Serial Clock. Logic input. SCLK provides the serial clock for accessing data from the part. This clock input is also used as the clock source for the conversion process.", 8 VDD (power) "Power Supply Input. VDD is 3 V (+20%/-10%) or 5 V (+/-5%). This supply should be decoupled to GND with a 0.1 uF capacitor and a 10 uF tantalum capacitor in parallel."

## AD7440BRTZ-R2
designator U?
Single 10-Bit Analog-to-Digital Converter with Serial, SPI Interface, 1MSPS, -40 to +85 degC, RJ-8, Pb-Free, Reel; Part Number: AD7440; Manufacturer: Analog Devices; Resolution (Bits): 10; Channels: 1; Throughput Rate (SPS): 1M; Interface: Ser, SPI; DatasheetVersion: Rev.C; PackageVersion: 121608-A; PackageReference: RJ-8; PackageDescription: 8-Lead Thin Small Outline Transistor Package [SOT-23]; RoHS: Y; Packing: Reel; Mounting Technology: Surface Mount; Code_JEDEC: MO-178-BA; ComponentLink1Description: Manufacturer URL; ComponentLink1URL: http://www.analog.com/en/index.html; ComponentLink2Description: Datasheet; ComponentLink2URL: http://www.analog.com/static/imported-files/data_sheets/AD7440_7450A.pdf; ComponentLink3Description: Package Specification; ComponentLink3URL: http://www.analog.com/static/imported-files/packages/PKG_PDF/SOT-23(RJ)/RJ_8.pdf; ComponentLink4Description: Product URL; ComponentLink4URL: http://www.analog.com/en/analog-to-digital-converters/ad-converters/ad7440/products/product.html
footprint RJ-8_N (SOP, 8-Leads, Body 2.9x1.6mm, Pitch 0.65mm, IPC Medium Density)
footprint RJ-8_L (SOP, 8-Leads, Body 2.9x1.6mm, Pitch 0.65mm, IPC High Density)
footprint RJ-8_M (SOP, 8-Leads, Body 2.9x1.6mm, Pitch 0.65mm, IPC Low Density)
pins: 1 VDD (power) "Power Supply Input. VDD is 3 V (+20%/-10%) or 5 V (+/-5%). This supply should be decoupled to GND with a 0.1 uF capacitor and a 10 uF tantalum capacitor in parallel.", 2 SCLK (in) "Serial Clock. Logic input. SCLK provides the serial clock for accessing data from the part. This clock input is also used as the clock source for the conversion process.", 3 SDATA (hiz) "Serial Data. Logic output. The conversion result from the AD7440/AD7450A is provided on this output as a serial data stream. The bits are clocked out on the falling edge of the SCLK input. The data stream of the AD7450A (See Datasheet)", 4 ~{CS} (in) "Chip Select. Active low logic input. This input provides the dual function of initiating a conversion on the AD7440/AD7450A and framing the serial data transfer.", 5 GND (power) "Analog Ground. Ground reference point for all circuitry on the AD7440/AD7450A. All analog input signals and any external reference signal should be referred to this GND voltage.", 6 VIN- (in) "Negative Terminal for Differential Analog Input.", 7 VIN+ (in) "Positive Terminal for Differential Analog Input.", 8 VREF (in) "Reference Input for the AD7440/AD7450A. An external reference must be applied to this input. For a 5 V power supply, the reference is 2.5 V (+/-1%) for specified performance. For a 3 V power supply, the reference is 2 V (See Datasheet)"